# Altium footprint library DM1092_R0M0E0.PcbLib: 17 footprints (part 2 of 2)
Each footprint in its own frame and in the unit in brackets; x right, y up, seen from the top. Pads: shape width x height; smd on the part's side, far side on the other; paste and mask are expansions set on the pad; w line width, h text height; cw(c..) or ccw(c..) is an arc to the next point about the centre after c.
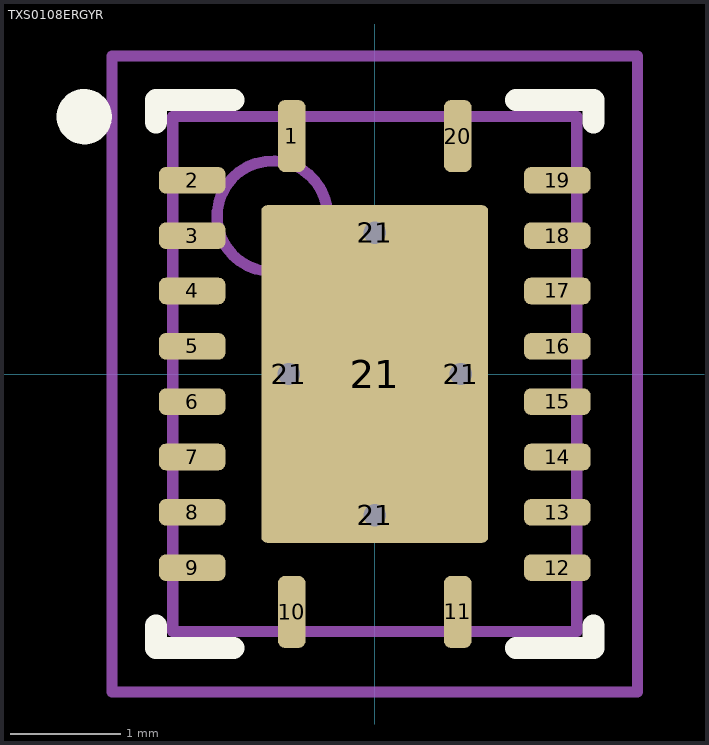
[diagram p1: the footprint, top view; thin cyan lines are the x and y axes]

## TXS0108ERGYR [mm] "20-VQFN (3.5x4.5)"
height 1
pads (25):
  rrect50% 0.25x0.65 smd mask+0.07: 1(-0.75,2.15) 10(-0.75,-2.15) 11(0.75,-2.15) 20(0.75,2.15)
  rrect50% 0.6x0.24 smd mask+0.07: 2(-1.65,1.75) 3(-1.65,1.25) 4(-1.65,0.75) 5(-1.65,0.25) 6(-1.65,-0.25) 7(-1.65,-0.75) 8(-1.65,-1.25) 9(-1.65,-1.75) 12(1.65,-1.75) 13(1.65,-1.25) 14(1.65,-0.75) 15(1.65,-0.25) 16(1.65,0.25) 17(1.65,0.75) 18(1.65,1.25) 19(1.65,1.75)
  oval 0.406x0.406 hole 0.203: 21(-0.775,0) 21(0,-1.275) 21(0,1.275) 21(0.775,0)
  rrect5% 2.05x3.05 smd paste-3 mask+0.07: 21(0,0)
Top Overlay:
  circle w0.25: c-2.625,2.325 r0.125
  lines w0.2: -1.975,-2.275 -1.975,-2.475 -1.275,-2.475 ; -1.975,2.275 -1.975,2.475 -1.275,2.475 ; 1.275,-2.475 1.975,-2.475 1.975,-2.275 ; 1.275,2.475 1.975,2.475 1.975,2.275
Top Paste:
  region: -0.1,-0.105 -1.02,-0.105 -1.02,-1.435 -0.1,-1.435
  rectangle: 0.1,-1.435 1.02,-0.105
  region: -0.1,1.435 -1.02,1.435 -1.02,0.105 -0.1,0.105
  rectangle: 0.1,0.105 1.02,1.435
Top Assembly:
  circle w0.1: c-0.925,1.425 r0.5
  lines w0.1: -2.375,-2.875 2.375,-2.875 2.375,2.875 -2.375,2.875 -2.375,-2.875
Top 3D Body:
  text "'.Designator'" at 0,0.188 h1
Top Courtyard:
  lines w0.05: -0.5,0 0.5,0 ; 0,-0.5 0,0.5 ; -2.375,-2.875 2.375,-2.875 2.375,2.875 -2.375,2.875 -2.375,-2.875
Bottom Component Outline (Mech32):
  lines w0.1: -1.825,-2.325 -1.825,2.325 1.825,2.325 1.825,-2.325 -1.825,-2.325
3D body "QFN50P350X450X100_HS-21N.step": height 1, standoff 0, extent -1.826,-2.326 1.826,2.326